# Altium schematic symbol library MotorDriver.SchLib: 3 symbols
Pins are listed as number, name and electrical type; pins without a type are passive.

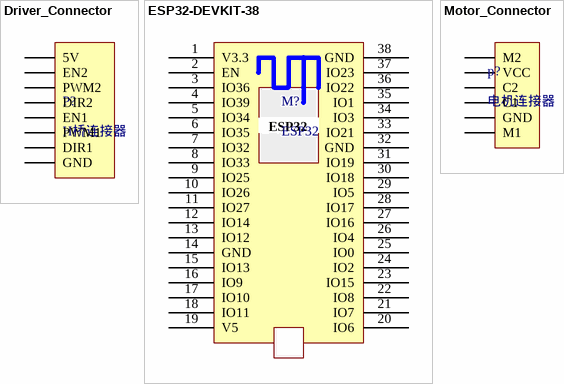
[diagram p0: symbols Driver_Connector to Motor_Connector]

## Driver_Connector
designator P?, comment H桥连接器
两路H桥连接器
pins: 1 5V, 2 EN2, 3 PWM2, 4 DIR2, 5 EN1, 6 PWM1, 7 DIR1, 8 GND

## ESP32-DEVKIT-38
designator M?, comment ESP32
ESP32开发板，38引脚
pins: 1 V3.3, 2 EN, 3 IO36, 4 IO39, 5 IO34, 6 IO35, 7 IO32, 8 IO33, 9 IO25, 10 IO26, 11 IO27, 12 IO14, 13 IO12, 14 GND, 15 IO13, 16 IO9, 17 IO10, 18 IO11, 19 V5, 20 IO6, 21 IO7, 22 IO8, 23 IO15, 24 IO2, 25 IO0, 26 IO4, 27 IO16, 28 IO17, 29 IO5, 30 IO18, 31 IO19, 32 GND, 33 IO21, 34 IO3, 35 IO1, 36 IO22, 37 IO23, 38 GND

## Motor_Connector
designator p?, comment 电机连接器
编码直流电机连接器
pins: 1 M2, 2 VCC, 3 C2, 4 C1, 5 GND, 6 M1